# Altium schematic symbol library 1862068.SchLib: 1 symbol
Pins are listed as number, name and electrical type; pins without a type are passive.

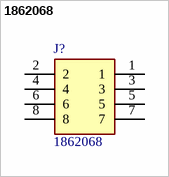
[diagram p0: symbol 1862068]

## 1862068
designator J?
Fixed Terminal Blocks SPTAF 1/ 4-3,5-EL; Manufacturer_Name: Phoenix Contact; Geometry.Height: 10.2mm; Mouser Part Number: 651-1862068; Mouser Price/Stock: https://www.mouser.co.uk/ProductDetail/Phoenix-Contact/1862068?qs=tlR8i4ZVbUc%2F8QHSz36BSA%3D%3D; Manufacturer_Part_Number: 1862068; Datasheet Link: https://www.arrow.com/en/products/1862068/phoenix-contact
footprint 1862068
pins: 1, 2, 3, 4, 5, 6, 7, 8